# Altium schematic symbol library DO - Diodes - Rectifiers - Single (Standard).SchLib: 2 symbols
Pins are listed as number, name and electrical type; pins without a type are passive.

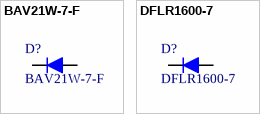
[diagram p0: symbols BAV21W-7-F to DFLR1600-7]

## BAV21W-7-F
designator D?
DIODE GEN PURP 200V 200MA SOD123; Manufacturer: Diodes Incorporated; Diode Type: Standard; Voltage - Forward (Vf) (Max) @ If: 1.25V @ 200mA; Speed: Small Signal =< 200mA (Io), Any Speed; Reverse Recovery Time (trr): 50ns; Current - Reverse Leakage @ Vr: 100nA @ 200V; Capacitance @ Vr, F: 5pF @ 0V, 1MHz; Configuration: Single; Type: Switching Diode; Max Surge Current: 2.5 A; Recovery Time: 50 ns; If - Forward Current: 0.2 A; Ir - Reverse Current: 15 uA; Vf - Forward Voltage: 1.25 V; Supplier 1: Digi-Key; Manufacturer Part Number: BAV21W-7-F; RoHS: RoHS Compliant; Category: Discrete Semiconductor Products; Stock 1: 45564; Pricing 1: 1=0.19, 10=0.169, 100=0.0921, 500=0.05668, 1000=0.03864 (USD); Packaging: Cut Tape (CT); Part Status: Active; Voltage - DC Reverse (Vr) (Max): 200V; Current - Average Rectified (Io): 200mA; Mounting Type: Surface Mount; Package / Case: SOD-123; Supplier Device Package: SOD-123; Operating Temperature - Junction: -65°C ~ 150°C; ComponentLink1URL: http://www.diodes.com/_files/datasheets/ds12024.pdf; ComponentLink1Description: http://www.diodes.com/_files/datasheets/ds12024.pdf; Supplier 2: Mouser; Stock 2: 12019; Pricing 2: 1=0.190, 10=0.176, 100=0.062, 1000=0.041, 3000=0.032, 9000=0.027, 24000=0.025, 45000=0.022, 99000=0.018 (USD); Height: 1.35 mm; Length: 2.85 mm; Operating Temperature Range: - 65 C to + 150 C; Product: Switching Diodes; Series: BAV21; Width: 1.7 mm; Brand: Diodes Incorporated; Mounting Style: SMD/SMT; Maximum Operating Temperature: + 150 C; Minimum Operating Temperature: - 65 C; Peak Reverse Voltage: 200 V; Standard Pack Qty: 3000; RoHS - Mouser: Y; Minimum Order Quantity: 1; Reeling: True; ComponentLink2URL: http://www.mouser.com/ds/2/115/ds12024-82716.pdf; ComponentLink2Description: http://www.mouser.com/ds/2/115/ds12024-82716.pdf; Supplier Part Number 1: BAV21W-FDICT-ND; Supplier Part Number 2: 621-BAV21W-F
footprint SOD-123
pins: 1 A, 2 K

## DFLR1600-7
designator D?
DIODE GEN 600V 1A POWERDI123; Manufacturer: Diodes Incorporated; Diode Type: Standard; Voltage - Forward (Vf) (Max) @ If: 1.1V @ 1A; Speed: Standard Recovery >500ns, > 200mA (Io); Current - Reverse Leakage @ Vr: 3µA @ 600V; Capacitance @ Vr, F: 10pF @ 4V, 1MHz; Configuration: Single; Type: Standard Recovery Rectifiers; Max Surge Current: 25 A; Ir - Reverse Current: 3 uA; Vf - Forward Voltage: 1.1 V; Supplier 1: Digi-Key; Manufacturer Part Number: DFLR1600-7; RoHS: RoHS Compliant; Category: Discrete Semiconductor Products; Stock 1: 5690; Pricing 1: 1=0.46, 10=0.346, 100=0.2153, 500=0.1473, 1000=0.1133 (USD); Packaging: Cut Tape (CT); Part Status: Active; Voltage - DC Reverse (Vr) (Max): 600V; Current - Average Rectified (Io): 1A; Reverse Recovery Time (trr): -; Mounting Type: Surface Mount; Package / Case: POWERDI®123; Supplier Device Package: PowerDI™ 123; Operating Temperature - Junction: -65°C ~ 150°C; ComponentLink1URL: http://www.diodes.com/_files/datasheets/ds30602.pdf; ComponentLink1Description: http://www.diodes.com/_files/datasheets/ds30602.pdf; Supplier 2: Mouser; Stock 2: 4390; Pricing 2: 1=0.440, 10=0.312, 100=0.143, 1000=0.110, 3000=0.094, 9000=0.085, 24000=0.079, 45000=0.071, 99000=0.067 (USD); Height: 0.98 mm; Length: 2.8 mm; Operating Temperature Range: - 65 C to + 150 C; Product: Rectifiers; Series: DFLR1600; Width: 1.78 mm; Brand: Diodes Incorporated; Mounting Style: SMD/SMT; Recovery Time: -; If - Forward Current: 1 A; Maximum Operating Temperature: + 150 C; Minimum Operating Temperature: - 65 C; Pd - Power Dissipation: -; Standard Pack Qty: 3000; Vr - Reverse Voltage: 600 V; RoHS - Mouser: Y; Minimum Order Quantity: 1; Reeling: True; ComponentLink2URL: http://www.mouser.com/ds/2/115/ds30602-89344.pdf; ComponentLink2Description: http://www.mouser.com/ds/2/115/ds30602-89344.pdf; Supplier Part Number 1: DFLR1600-7DICT-ND; Supplier Part Number 2: 621-DFLR1600-7
footprint SOD PowerDI123
pins: 1 A, 2 K